# EAGLE library part 74LVC4245APW (library NXP_By_element14_Batch_1)
Octal dual supply translating transceiver
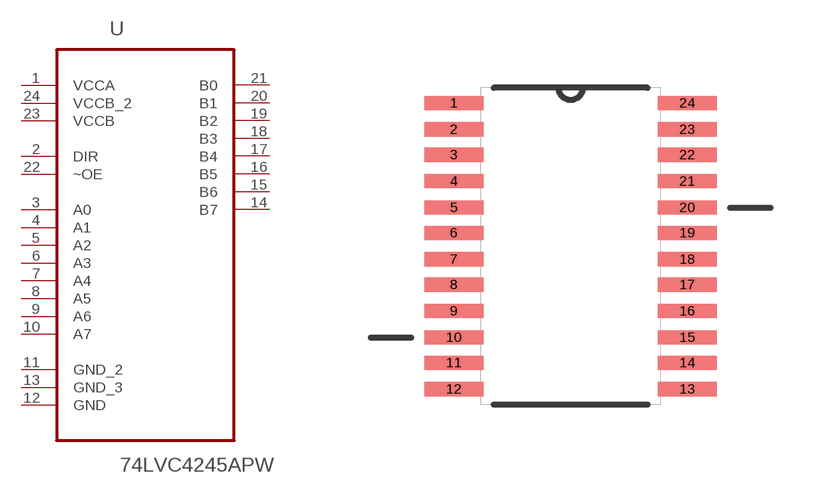
[diagram p231: symbol with the pads of SOP65P640X110-24N; footprint SOP65P640X110-24N]

Designator prefix U

## 74LVC4245APW (MPN: 74LVC4245APW; OC_FARNELL: 1631648; OC_NEWARK: 03P2784; P1I: o; PACKAGE: TSSOP-24; SUPPLIER: NXP)  [SOP65P640X110-24N]
1  VCCA  pwr
2  DIR  in
3  A0
4  A1
5  A2
6  A3
7  A4
8  A5
9  A6
10  A7
11  GND_2  pas
12  GND  pas
13  GND_3  pas
14  B7
15  B6
16  B5
17  B4
18  B3
19  B2
20  B1
21  B0
22  ~OE  in
23  VCCB  pwr
24  VCCB_2  pwr

## Footprint SOP65P640X110-24N (pad centres in mm)
smd 1.473 x 0.356: 1 -2.921,3.581; 2 -2.921,2.921; 3 -2.921,2.286; 4 -2.921,1.626; 5 -2.921,0.965; 6 -2.921,0.33; 7 -2.921,-0.33; 8 -2.921,-0.965; 9 -2.921,-1.626; 10 -2.921,-2.286; 11 -2.921,-2.921; 12 -2.921,-3.581; 13 2.921,-3.581; 14 2.921,-2.921; 15 2.921,-2.286; 16 2.921,-1.626; 17 2.921,-0.965; 18 2.921,-0.33; 19 2.921,0.33; 20 2.921,0.965; 21 2.921,1.626; 22 2.921,2.286; 23 2.921,2.921; 24 2.921,3.581